# EAGLE library part HEADER10X2 (library X893)
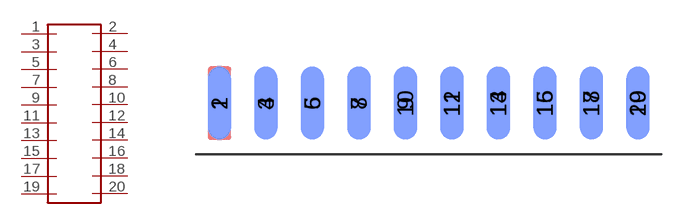
[diagram p139: symbol with the pads of PLANAR10X2; footprint PLANAR10X2]

Designator prefix J

## HEADER10X2-SMD  [PLANAR10X2]
1  1  pas
2  2  pas
3  3  pas
4  4  pas
5  5  pas
6  6  pas
7  7  pas
8  8  pas
9  9  pas
10  10  pas
11  11  pas
12  12  pas
13  13  pas
14  14  pas
15  15  pas
16  16  pas
17  17  pas
18  18  pas
19  19  pas
20  20  pas

## Footprint PLANAR10X2 (pad centres in mm)
smd 1.27 x 4: 1 -11.43,2.8; 3 -8.89,2.8; 5 -6.35,2.8; 7 -3.81,2.8; 9 -1.27,2.8; 11 1.27,2.8; 13 3.81,2.8; 15 6.35,2.8; 17 8.89,2.8; 19 11.43,2.8
smd 1.27 x 4 bottom: 2 -11.43,2.8; 4 -8.89,2.8; 6 -6.35,2.8; 8 -3.81,2.8; 10 -1.27,2.8; 12 1.27,2.8; 14 3.81,2.8; 16 6.35,2.8; 18 8.89,2.8; 20 11.43,2.8